# EAGLE library part CP2102 (library Fugu_LSI)
SINGLE-CHIP USB TO UART BRIDGE
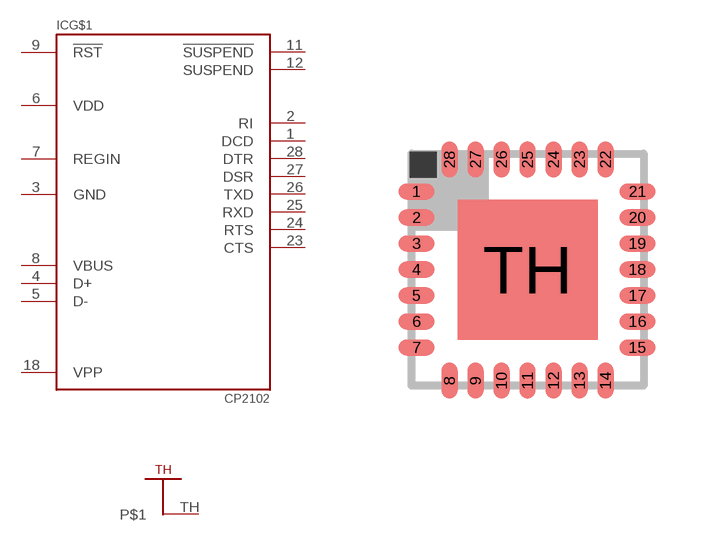
[diagram p14: symbol with the pads of HVQFN28; footprint HVQFN28]

Designator prefix IC; gates G$1=CP2102 G$2=THERMAL_HEATSINK

## CP2102  [HVQFN28]
1  G$1:DCD
2  G$1:RI
3  G$1:GND
4  G$1:D+
5  G$1:D-
6  G$1:VDD
7  G$1:REGIN
8  G$1:VBUS
9  G$1:!RST
11  G$1:!SUSPEND
12  G$1:SUSPEND
18  G$1:VPP
23  G$1:CTS
24  G$1:RTS
25  G$1:RXD
26  G$1:TXD
27  G$1:DSR
28  G$1:DTR
TH  G$2:P$1

## Footprint HVQFN28 (pad centres in mm)
HVQFN28: plastic thermal enhanced very thin quad flat package SOT788-1 no leads; 28 terminals; body 6 x 6 x 0.85 mm Source: Data sheet <http://www.nxp.com/documents/data_sheet/P89LPC933_934_935_936.pdf>
smd 0.9 x 0.4: 1 -2.775,1.95; 2 -2.775,1.3; 3 -2.775,0.65; 4 -2.775,0; 5 -2.775,-0.65; 6 -2.775,-1.3; 7 -2.775,-1.95; 15 2.75,-1.95; 16 2.75,-1.3; 17 2.75,-0.65; 18 2.75,0; 19 2.75,0.65; 20 2.75,1.3; 21 2.75,1.95
smd 0.4 x 0.9: 8 -1.95,-2.775; 9 -1.3,-2.775; 10 -0.65,-2.775; 11 0,-2.775; 12 0.65,-2.775; 13 1.3,-2.775; 14 1.95,-2.775; 22 1.95,2.75; 23 1.3,2.75; 24 0.65,2.75; 25 0,2.75; 26 -0.65,2.75; 27 -1.3,2.75; 28 -1.95,2.75
smd 3.5 x 3.5: TH 0,0